# Altium footprint library flatsat_platform.PcbLib: 26 footprints (part 1 of 2)
Each footprint in its own frame and in the unit in brackets; x right, y up, seen from the top. Pads: shape width x height; smd on the part's side, far side on the other; paste and mask are expansions set on the pad; w line width, h text height; cw(c..) or ccw(c..) is an arc to the next point about the centre after c.
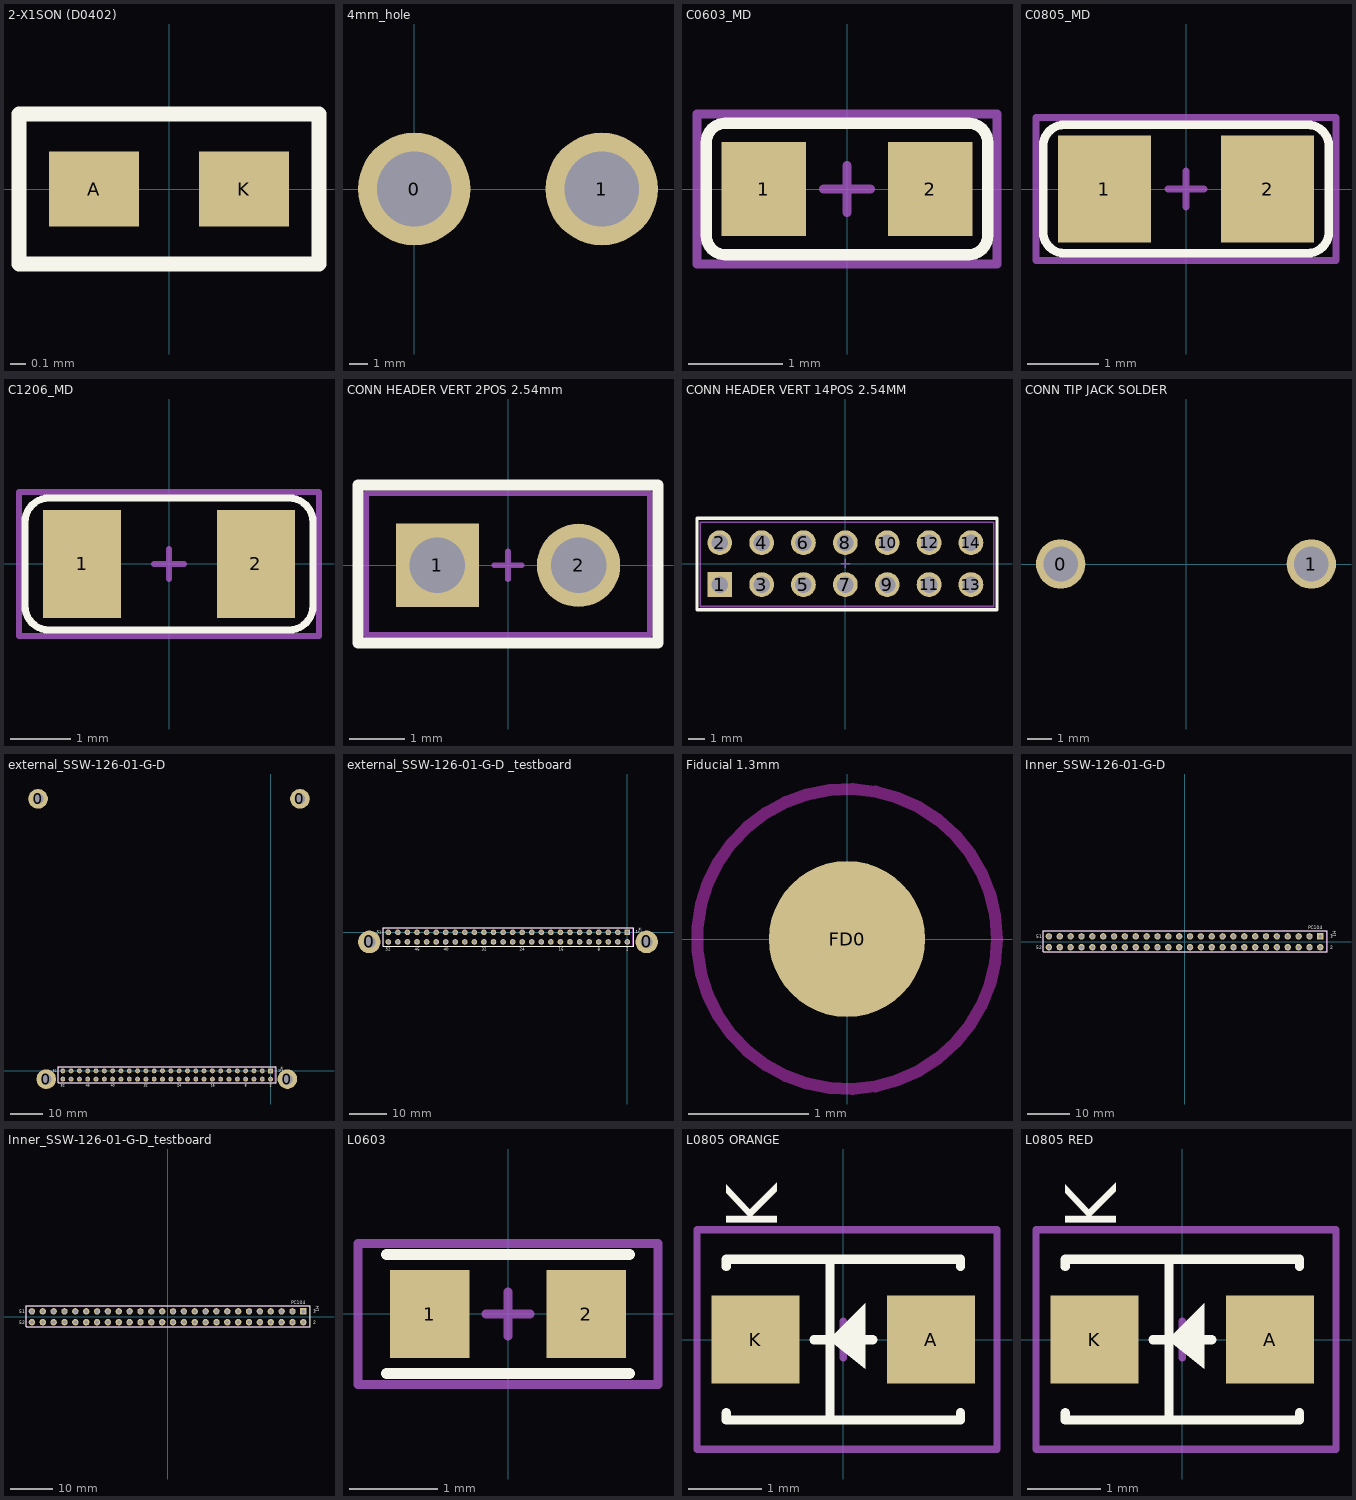
[diagram p0: the footprints below, top view; thin cyan lines are the x and y axes]

## 2-X1SON (D0402) [mm]
pads (2):
  rect 0.6x0.5 smd: A(-0.5,0) K(0.5,0)
Top Overlay:
  lines w0.1: -1,-0.5 -1,-0.2 -1,0.5 1,0.5 1,-0.5 -1,-0.5

## 4mm_hole [mm]
pads (2):
  round 6 hole 4: 0(0,0) 1(10,0)

## C0603_MD [mm] "Chip Capacitor, Body 1.6x0.8mm, IPC Medium Density"
height 0.85
pads (2):
  rect 0.9x1 smd: 1(-0.889,0) 2(0.889,0)
Top Overlay:
  lines w0.12: -1.5,-0.5 ccw(c-1.3,-0.5) -1.3,-0.7 1.3,-0.7 ccw(c1.3,-0.5) 1.5,-0.5 1.5,0.5 ccw(c1.3,0.5) 1.3,0.7 -1.3,0.7 ccw(c-1.3,0.5) -1.5,0.5 -1.5,-0.5
Mechanical 15:
  lines w0.1: -0.25,0 0.25,0 ; 0,-0.25 0,0.25 ; -1.6,-0.8 1.6,-0.8 1.6,0.8 -1.6,0.8 -1.6,-0.8
  text "'.Designator'" at -1.5,-0.5 h0.8
3D body "C0603.step": height 0.79, standoff 0, extent -1,-0.406 1,0.381

## C0805_MD [mm] "Chip Capacitor, Body 2.0x1.3mm, IPC Medium Density"
height 1.1
pads (2):
  rect 1.3x1.5 smd: 1(-1.143,0) 2(1.143,0)
Top Overlay:
  lines w0.12: -2,-0.6 ccw(c-1.7,-0.6) -1.7,-0.9 1.7,-0.9 ccw(c1.7,-0.6) 2,-0.6 2,0.6 ccw(c1.7,0.6) 1.7,0.9 -1.7,0.9 ccw(c-1.7,0.6) -2,0.6 -2,-0.6
Mechanical 15:
  lines w0.1: -0.25,0 0.25,0 ; 0,-0.25 0,0.25 ; -2.1,-1 2.1,-1 2.1,1 -2.1,1 -2.1,-1
  text "'.Designator'" at -1.8,-0.7 h0.8
3D body "C0805.step": height 0.79, standoff 0, extent -1.254,-0.61 1.254,0.635

## C1206_MD [mm] "Chip Capacitor, Body 3.2x1.6mm, IPC Medium Density"
height 1.35
pads (2):
  rect 1.3x1.8 smd: 1(-1.45,0) 2(1.45,0)
Top Overlay:
  lines w0.12: -2.4,-0.7 ccw(c-2,-0.7) -2,-1.1 2,-1.1 ccw(c2,-0.7) 2.4,-0.7 2.4,0.7 ccw(c2,0.7) 2,1.1 -2,1.1 ccw(c-2,0.7) -2.4,0.7 -2.4,-0.7
Mechanical 15:
  lines w0.1: -0.25,0 0.25,0 ; 0,-0.25 0,0.25 ; -2.5,-1.2 -2.5,1.2 2.5,1.2 2.5,-1.2 -2.5,-1.2
  text "'.Designator'" at -2,-1 h0.8
3D body "C1206.step": height 1.53, standoff 0, extent -2,-0.813 2,0.788

## CONN HEADER VERT 2POS 2.54mm [mm]
pads (2):
  rect 1.5x1.5 hole 1: 1(-1.27,0)
  round 1.5 hole 1: 2(1.27,0)
Top Overlay:
  lines w0.2: -2.7,-1.4 2.7,-1.4 2.7,1.45 -2.7,1.45 -2.7,-1.4
Mechanical 15:
  lines w0.1: -0.25,0 0.25,0 ; 0,-0.25 0,0.25 ; -2.55,-1.25 -2.55,1.3 2.55,1.3 2.55,-1.25 -2.55,-1.25
  text "'.Designator'" at -2,-1 h0.8
3D body "m20-9990245_asm.stp": height 8.65, standoff -3.03, extent -2.54,-1.25 2.54,1.29

## CONN HEADER VERT 14POS 2.54MM [mm]
pads (14):
  rect 1.5x1.5 hole 1: 1(-7.62,-1.27)
  round 1.5 hole 1: 2(-7.62,1.27) 3(-5.08,-1.27) 4(-5.08,1.27) 5(-2.54,-1.27) 6(-2.54,1.27) 7(0,-1.27) 8(0,1.27) 9(2.54,-1.27) 10(2.54,1.27) 11(5.08,-1.27) 12(5.08,1.27) 13(7.62,-1.27) 14(7.62,1.27)
Top Overlay:
  lines w0.2: -9,-2.8 -9,2.75 0.21,2.75 9.2,2.75 9.2,-2.8 -9,-2.8
Mechanical 15:
  lines w0.1: -0.25,0 0.25,0 ; 0,-0.25 0,0.25 ; -8.8,-2.6 9,-2.6 9,2.5 -8.8,2.5 -8.8,0.25 -8.8,-2.6
  text "'.Designator'" at -1.75,0.75 h1.2
3D body "m20-9980745_asm.stp": height 8.65, standoff -3.03, extent -8.88,-2.555 8.9,2.525

## CONN TIP JACK SOLDER [mm]
pads (2):
  round 2 hole 1.4: 0(-5.08,0) 1(5.08,0)
3D body "105-0753-001.stp": height 5.17, standoff -3.17, extent -5.314,-1.981 5.314,1.981

## external_SSW-126-01-G-D [mm] "CONN RCPT 52POS 0.1 GOLD PCB"
height 3.1
pads (56):
  round 6 hole 3.2: 0(-71.053,83.135) 0(-68.553,-2.54) 0(5.131,-2.526) 0(8.972,83.135)
  rect 1.5x1.5 hole 0.9: H2-1(0,0)
  round 1.5 hole 0.9: H2-2(0,-2.54) H2-3(-2.54,0) H2-4(-2.54,-2.54) H2-5(-5.08,0) H2-6(-5.08,-2.54) H2-7(-7.62,0) H2-8(-7.62,-2.54) H2-9(-10.16,0) H2-10(-10.16,-2.54) H2-11(-12.7,0) H2-12(-12.7,-2.54) H2-13(-15.24,0) H2-14(-15.24,-2.54) H2-15(-17.78,0) H2-16(-17.78,-2.54) H2-17(-20.345,0) H2-18(-20.32,-2.54) H2-19(-22.86,0) H2-20(-22.86,-2.54) H2-21(-25.4,0) H2-22(-25.4,-2.54) H2-23(-27.94,0) H2-24(-27.94,-2.54) H2-25(-30.48,0) H2-26(-30.48,-2.54) H2-27(-33.02,0) H2-28(-33.02,-2.54) H2-29(-35.56,0) H2-30(-35.56,-2.54) H2-31(-38.1,0) H2-32(-38.1,-2.54) H2-33(-40.64,0) H2-34(-40.64,-2.54) H2-35(-43.18,0) H2-36(-43.18,-2.54) H2-37(-45.72,0) H2-38(-45.72,-2.54) H2-39(-48.26,0) H2-40(-48.26,-2.54) H2-41(-50.8,0) H2-42(-50.8,-2.54) H2-43(-53.34,0) H2-44(-53.34,-2.54) H2-45(-55.88,0) H2-46(-55.88,-2.54) H2-47(-58.42,0) H2-48(-58.42,-2.54) H2-49(-60.96,0) H2-50(-60.96,-2.54) H2-51(-63.5,0) H2-52(-63.5,-2.54)
Top Overlay:
  lines w0.2: -64.875,-3.636 -64.875,1.27 1.675,1.27 1.675,-3.636 -64.875,-3.636
  text "H2" at 3.048,1.27 h0.75
  text "51" at -66.525,-0.4 h0.75
  text "1" at 2.286,-0.254 h0.75
  text "52" at -64.135,-4.826 h0.75
  text "2" at -0.254,-4.826 h0.75
  text "8" at -7.874,-4.826 h0.75
  text "16" at -18.288,-4.826 h0.75
  text "24" at -28.575,-4.826 h0.75
  text "32" at -38.735,-4.826 h0.75
  text "40" at -48.768,-4.826 h0.75
  text "46" at -56.515,-4.826 h0.75
Mechanical 15:
  lines w0.1: -64.875,-3.636 -64.875,1.275 1.475,1.275 1.475,-3.636 -64.875,-3.636
  text ".Designator" at -15.425,-1.625 h0.89
3D body "SSW-126-01-G-D.stp": height 8.52, standoff -2.63, extent -65.024,-3.7 1.524,1.254

## external_SSW-126-01-G-D _testboard [mm] "CONN RCPT 52POS 0.1 GOLD PCB"
height 3.1
pads (54):
  round 6 hole 3.2: 0(-68.553,-2.54) 0(5.131,-2.526)
  rect 1.5x1.5 hole 0.9: H2-1(0,0)
  round 1.5 hole 0.9: H2-2(0,-2.54) H2-3(-2.54,0) H2-4(-2.54,-2.54) H2-5(-5.08,0) H2-6(-5.08,-2.54) H2-7(-7.62,0) H2-8(-7.62,-2.54) H2-9(-10.16,0) H2-10(-10.16,-2.54) H2-11(-12.7,0) H2-12(-12.7,-2.54) H2-13(-15.24,0) H2-14(-15.24,-2.54) H2-15(-17.78,0) H2-16(-17.78,-2.54) H2-17(-20.345,0) H2-18(-20.32,-2.54) H2-19(-22.86,0) H2-20(-22.86,-2.54) H2-21(-25.4,0) H2-22(-25.4,-2.54) H2-23(-27.94,0) H2-24(-27.94,-2.54) H2-25(-30.48,0) H2-26(-30.48,-2.54) H2-27(-33.02,0) H2-28(-33.02,-2.54) H2-29(-35.56,0) H2-30(-35.56,-2.54) H2-31(-38.1,0) H2-32(-38.1,-2.54) H2-33(-40.64,0) H2-34(-40.64,-2.54) H2-35(-43.18,0) H2-36(-43.18,-2.54) H2-37(-45.72,0) H2-38(-45.72,-2.54) H2-39(-48.26,0) H2-40(-48.26,-2.54) H2-41(-50.8,0) H2-42(-50.8,-2.54) H2-43(-53.34,0) H2-44(-53.34,-2.54) H2-45(-55.88,0) H2-46(-55.88,-2.54) H2-47(-58.42,0) H2-48(-58.42,-2.54) H2-49(-60.96,0) H2-50(-60.96,-2.54) H2-51(-63.5,0) H2-52(-63.5,-2.54)
Top Overlay:
  lines w0.2: -64.875,-3.636 1.675,-3.636 1.675,1.27 -64.875,1.27 -64.875,-3.636
  text "46" at -56.515,-4.826 h0.75
  text "40" at -48.768,-4.826 h0.75
  text "32" at -38.735,-4.826 h0.75
  text "24" at -28.575,-4.826 h0.75
  text "16" at -18.288,-4.826 h0.75
  text "8" at -7.874,-4.826 h0.75
  text "2" at -0.254,-4.826 h0.75
  text "52" at -64.135,-4.826 h0.75
  text "1" at 2.286,-0.254 h0.75
  text "51" at -66.525,-0.4 h0.75
  text "H2" at 3.048,1.27 h0.75
Mechanical 15:
  lines w0.1: -64.875,-3.636 1.475,-3.636 1.475,1.275 -64.875,1.275 -64.875,-3.636
  text ".Designator" at -15.425,-1.625 h0.89
3D body "SSW-126-01-G-D.stp": height 8.52, standoff -2.63, extent -65.024,-3.7 1.524,1.254

## Fiducial 1.3mm [mm]
pads (1):
  round 1.3 smd mask+0.6: FD0(0,0)
Top Layer keep-out:
  circle w0.1: c0,0 r1.25

## Inner_SSW-126-01-G-D [mm] "CONN RCPT 52POS 0.1 GOLD PCB"
height 3.1
pads (52):
  rect 1.5x1.5 hole 0.9: H1-1(31.75,1.27)
  round 1.5 hole 0.9: H1-2(31.75,-1.27) H1-3(29.21,1.27) H1-4(29.21,-1.27) H1-5(26.67,1.27) H1-6(26.67,-1.27) H1-7(24.13,1.27) H1-8(24.13,-1.27) H1-9(21.59,1.27) H1-10(21.59,-1.27) H1-11(19.05,1.27) H1-12(19.05,-1.27) H1-13(16.51,1.27) H1-14(16.51,-1.27) H1-15(13.97,1.27) H1-16(13.97,-1.27) H1-17(11.405,1.27) H1-18(11.43,-1.27) H1-19(8.89,1.27) H1-20(8.89,-1.27) H1-21(6.35,1.27) H1-22(6.35,-1.27) H1-23(3.81,1.27) H1-24(3.81,-1.27) H1-25(1.27,1.27) H1-26(1.27,-1.27) H1-27(-1.27,1.27) H1-28(-1.27,-1.27) H1-29(-3.81,1.27) H1-30(-3.81,-1.27) H1-31(-6.35,1.27) H1-32(-6.35,-1.27) H1-33(-8.89,1.27) H1-34(-8.89,-1.27) H1-35(-11.43,1.27) H1-36(-11.43,-1.27) H1-37(-13.97,1.27) H1-38(-13.97,-1.27) H1-39(-16.51,1.27) H1-40(-16.51,-1.27) H1-41(-19.05,1.27) H1-42(-19.05,-1.27) H1-43(-21.59,1.27) H1-44(-21.59,-1.27) H1-45(-24.13,1.27) H1-46(-24.13,-1.27) H1-47(-26.67,1.27) H1-48(-26.67,-1.27) H1-49(-29.21,1.27) H1-50(-29.21,-1.27) H1-51(-31.75,1.27) H1-52(-31.75,-1.27)
Top Overlay:
  lines w0.2: -33.125,-2.366 33.425,-2.366 33.425,2.54 -33.125,2.54 -33.125,-2.366
  text "PC104" at 28.956,2.921 h0.75
  text "51" at -34.775,0.87 h0.75
  text "2" at 34.036,-1.778 h0.75
  text "1" at 34.036,0.889 h0.75
  text "52" at -34.746,-1.744 h0.75
  text "H1" at 34.671,2.54 h0.75
Mechanical 15:
  lines w0.1: -33.125,-2.366 33.225,-2.366 33.225,2.545 -33.125,2.545 -33.125,-2.366
  text ".Designator" at 16.325,-0.355 h0.89
3D body "SSW-126-01-G-D.stp": height 8.52, standoff -2.63, extent -33.274,-2.43 33.274,2.524

## Inner_SSW-126-01-G-D_testboard [mm] "CONN RCPT 52POS 0.1 GOLD PCB"
height 3.1
pads (52):
  rect 1.5x1.5 hole 0.9: H1-1(31.75,1.27)
  round 1.5 hole 0.9: H1-2(31.75,-1.27) H1-3(29.21,1.27) H1-4(29.21,-1.27) H1-5(26.67,1.27) H1-6(26.67,-1.27) H1-7(24.13,1.27) H1-8(24.13,-1.27) H1-9(21.59,1.27) H1-10(21.59,-1.27) H1-11(19.05,1.27) H1-12(19.05,-1.27) H1-13(16.51,1.27) H1-14(16.51,-1.27) H1-15(13.97,1.27) H1-16(13.97,-1.27) H1-17(11.405,1.27) H1-18(11.43,-1.27) H1-19(8.89,1.27) H1-20(8.89,-1.27) H1-21(6.35,1.27) H1-22(6.35,-1.27) H1-23(3.81,1.27) H1-24(3.81,-1.27) H1-25(1.27,1.27) H1-26(1.27,-1.27) H1-27(-1.27,1.27) H1-28(-1.27,-1.27) H1-29(-3.81,1.27) H1-30(-3.81,-1.27) H1-31(-6.35,1.27) H1-32(-6.35,-1.27) H1-33(-8.89,1.27) H1-34(-8.89,-1.27) H1-35(-11.43,1.27) H1-36(-11.43,-1.27) H1-37(-13.97,1.27) H1-38(-13.97,-1.27) H1-39(-16.51,1.27) H1-40(-16.51,-1.27) H1-41(-19.05,1.27) H1-42(-19.05,-1.27) H1-43(-21.59,1.27) H1-44(-21.59,-1.27) H1-45(-24.13,1.27) H1-46(-24.13,-1.27) H1-47(-26.67,1.27) H1-48(-26.67,-1.27) H1-49(-29.21,1.27) H1-50(-29.21,-1.27) H1-51(-31.75,1.27) H1-52(-31.75,-1.27)
Top Overlay:
  lines w0.2: -33.125,-2.366 33.425,-2.366 33.425,2.54 -33.125,2.54 -33.125,-2.366
  text "PC104" at 28.956,2.921 h0.75
  text "51" at -34.775,0.87 h0.75
  text "2" at 34.036,-1.778 h0.75
  text "1" at 34.036,0.889 h0.75
  text "52" at -34.746,-1.744 h0.75
  text "H1" at 34.671,2.54 h0.75
Mechanical 15:
  lines w0.1: -33.125,-2.366 33.225,-2.366 33.225,2.545 -33.125,2.545 -33.125,-2.366
  text ".Designator" at 16.325,-0.355 h0.89
3D body "SSW-126-01-G-D.stp": height 8.52, standoff -2.63, extent -33.274,-2.43 33.274,2.524

## L0603 [mm]
pads (2):
  rect 0.9x1 smd: 1(-0.889,0) 2(0.889,0)
Top Overlay:
  lines w0.127: -1.375,-0.675 1.375,-0.675 ; -1.375,0.675 1.375,0.675
Mechanical 15:
  lines w0.1: -0.25,0 0.25,0 ; 0,-0.25 0,0.25 ; -1.7,-0.8 1.7,-0.8 1.7,0.8 -1.7,0.8 -1.7,-0.8
  text "'.Designator'" at -1.25,-0.5 h0.8
3D body "User Library-Chip Inductor (1).step": height 0.95, standoff 0, extent -0.8,-0.4 0.8,0.4

## L0805 ORANGE [mm] "LED RED CLEAR 0805 SMD"
pads (2):
  rect 1.2x1.2 smd paste+0: A(1.2,0) K(-1.2,0)
Top Overlay:
  region: -0.2,0 0.3,0.5 0.3,0 0.3,-0.4
  lines w0.127: -1.6,-1 -1.6,-1.1 1.6,-1.1 1.6,-1 ; -1.6,1 -1.6,1.1 1.6,1.1 1.6,1 ; -0.4,0 0.4,0 ; -0.181,-1.1 -0.181,1.1
  text "K" at -0.9,1.5 h0.7
Mechanical 15:
  lines w0.1: -0.25,0 0.25,0 ; 0,-0.25 0,0.25 ; -2,-1.5 -2,1.5 2.1,1.5 2.1,-1.5 -2,-1.5
  text "'.Designator'" at -1.6,-1.2 h0.8
3D body "User Library-led_0805_orange.step": height 1.11, standoff 0.01, extent -1.01,-0.625 1.01,0.625

## L0805 RED [mm] "LED RED CLEAR 0805 SMD"
pads (2):
  rect 1.2x1.2 smd paste+0: A(1.2,0) K(-1.2,0)
Top Overlay:
  region: -0.2,0 0.3,0.5 0.3,0 0.3,-0.4
  lines w0.127: -1.6,-1 -1.6,-1.1 1.6,-1.1 1.6,-1 ; -1.6,1 -1.6,1.1 1.6,1.1 1.6,1 ; -0.4,0 0.4,0 ; -0.181,-1.1 -0.181,1.1
  text "K" at -0.9,1.5 h0.7
Mechanical 15:
  lines w0.1: -0.25,0 0.25,0 ; 0,-0.25 0,0.25 ; -2,-1.5 -2,1.5 2.1,1.5 2.1,-1.5 -2,-1.5
  text "'.Designator'" at -1.6,-1.2 h0.8
3D body "User Library-led_0805.step": height 1.1, standoff 0, extent -1.01,-0.625 1.01,0.625